# Altium footprint library CaRe_PCBLib.PcbLib: 40 footprints (part 3 of 3)
Each footprint in its own frame and in the unit in brackets; x right, y up, seen from the top. Pads: shape width x height; smd on the part's side, far side on the other; paste and mask are expansions set on the pad; w line width, h text height; cw(c..) or ccw(c..) is an arc to the next point about the centre after c.
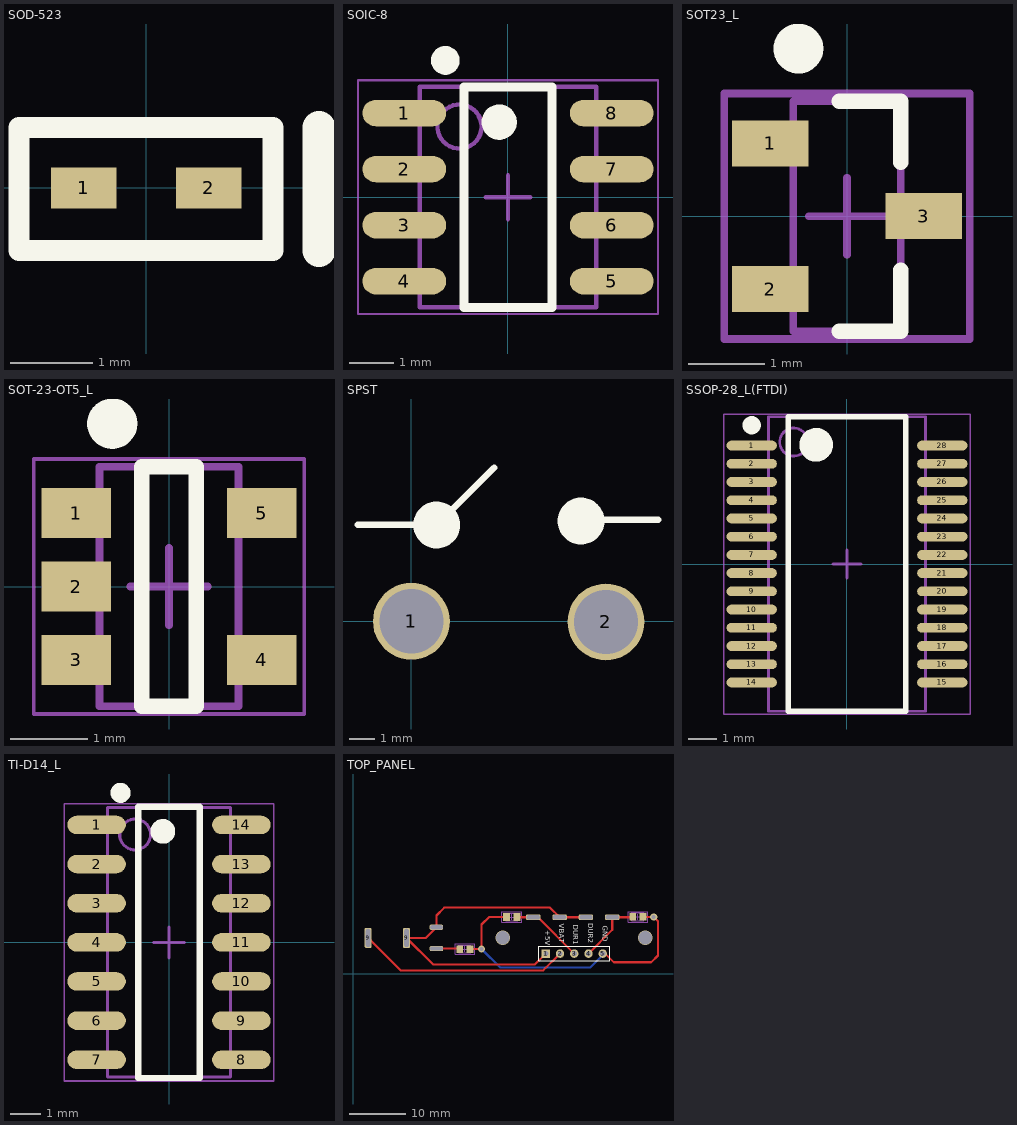
[diagram p2: the footprints below, top view; thin cyan lines are the x and y axes]

## SOD-523 [mm]
pads (2):
  rect 0.8x0.5 smd: 1(-0.762,0) 2(0.762,0)
Top Overlay:
  lines w0.254: -1.549,-0.762 -1.549,0.737 1.549,0.737 1.549,-0.762 -1.549,-0.762
  lines w0.4: 2.108,-0.762 2.108,0.737
3D body: height 0.71, standoff 0, extent -0.915,-0.424 0.915,0.425

## SOIC-8 [mm] "SOIC, 8-Leads, Body 4.9x3.9mm, Pitch 1.27mm, IPC High Density"
height 1.76
pads (8):
  oval 1.9x0.6 smd: 1(-2.35,1.905) 2(-2.35,0.635) 3(-2.35,-0.635) 4(-2.35,-1.905) 5(2.35,-1.905) 6(2.35,-0.635) 7(2.35,0.635) 8(2.35,1.905)
Top Overlay:
  circle w0.4: c-1.42,3.099 r0.125
  circle w0.4: c-0.2,1.7 r0.2
  lines w0.2: -1,-2.5 -1,2.5 1,2.5 1,-2.5 -1,-2.5
Mechanical 13:
  circle w0.1: c-1.1,1.6 r0.5
  lines w0.1: -2,-2.5 -2,2.5 2,2.5 2,-2.5 -2,-2.5
Mechanical 15:
  lines w0.05: -3.4,-2.65 -3.4,2.65 3.4,2.65 3.4,-2.65 -3.4,-2.65
  lines w0.1: -0.5,0 0.5,0 ; 0,-0.5 0,0.5
3D body: height 1.75, standoff 0, extent -3,-2.45 3,2.45

## SOT23_L [mm] "SOT23, 3-Leads, Body 2.9x1.3mm, Pitch 0.95mm, Lead Span 2.3mm, IPC High Density"
height 1.1
pads (3):
  rect 1x0.6 smd: 1(-1,0.95) 2(-1,-0.95) 3(1,0)
Top Overlay:
  circle w0.4: c-0.633,2.184 r0.125
  lines w0.2: -0.1,-1.5 0.7,-1.5 0.7,-0.7 ; -0.1,1.5 0.7,1.5 0.7,0.7
Mechanical 13:
  lines w0.1: -0.7,-1.5 -0.7,1.5 0.7,1.5 0.7,-1.5 -0.7,-1.5
Mechanical 15:
  lines w0.1: -0.5,0 0.5,0 ; 0,-0.5 0,0.5 ; -1.6,-1.6 -1.6,1.6 1.6,1.6 1.6,-1.6 -1.6,-1.6
3D body: height 1.1, standoff 0, extent -1.271,-1.524 1.271,1.476

## SOT-23-OT5_L [mm] "SOT23, 5-Leads, Body 2.9x1.6mm, Pitch 0.95mm, Lead Span 2.7mm, IPC High Density"
height 1.45
pads (5):
  rect 0.9x0.65 smd: 1(-1.2,0.95) 2(-1.2,0) 3(-1.2,-0.95) 4(1.2,-0.95) 5(1.2,0.95)
Top Overlay:
  circle w0.4: c-0.735,2.108 r0.125
  lines w0.2: -0.35,-1.55 0.35,-1.55 0.35,1.55 -0.35,1.55 -0.35,-1.55
Mechanical 13:
  lines w0.1: -0.9,-1.55 -0.9,1.55 0.9,1.55 0.9,-1.55 -0.9,-1.55
Mechanical 15:
  lines w0.05: -1.75,-1.65 -1.75,1.65 1.75,1.65 1.75,-1.65 -1.75,-1.65
  lines w0.1: -0.5,0 0.5,0 ; 0,-0.5 0,0.5
3D body: height 1.45, standoff 0, extent -1.53,-1.5 1.531,1.5

## SPST [mm] "Momentary Enable Button"
pads (2):
  round 3 hole 2.5: 1(0,0) 2(7.595,-0.025)
Top Overlay:
  circle w1: c0.991,3.759 r0.413
  circle w1: c6.622,3.912 r0.413
  lines w0.254: -2.083,3.759 0.991,3.759 3.226,5.994 ; 6.299,3.962 9.627,3.962

## SSOP-28_L(FTDI) [mm] "SOP, 28-Leads, Body 10.2x5.3mm, Pitch 0.65mm, IPC High Density"
height 2
pads (28):
  oval 1.8x0.35 smd: 1(-3.4,4.225) 2(-3.4,3.575) 3(-3.4,2.925) 4(-3.4,2.275) 5(-3.4,1.625) 6(-3.4,0.975) 7(-3.4,0.325) 8(-3.4,-0.325) 9(-3.4,-0.975) 10(-3.4,-1.625) 11(-3.4,-2.275) 12(-3.4,-2.925) 13(-3.4,-3.575) 14(-3.4,-4.225) 15(3.4,-4.225) 16(3.4,-3.575) 17(3.4,-2.925) 18(3.4,-2.275) 19(3.4,-1.625) 20(3.4,-0.975) 21(3.4,-0.325) 22(3.4,0.325) 23(3.4,0.975) 24(3.4,1.625) 25(3.4,2.275) 26(3.4,2.925) 27(3.4,3.575) 28(3.4,4.225)
Top Overlay:
  circle w0.4: c-3.4,4.95 r0.125
  circle w0.6: c-1.1,4.25 r0.3
  lines w0.2: -2.1,-5.25 -2.1,5.25 2.1,5.25 2.1,-5.25 -2.1,-5.25
Mechanical 13:
  circle w0.1: c-1.9,4.35 r0.5
  lines w0.1: -2.8,-5.25 -2.8,5.25 2.8,5.25 2.8,-5.25 -2.8,-5.25
Mechanical 15:
  lines w0.05: -4.4,-5.35 -4.4,5.35 4.4,5.35 4.4,-5.35 -4.4,-5.35
  lines w0.1: -0.5,0 0.5,0 ; 0,-0.5 0,0.5
3D body: height 2.16, standoff 0, extent -3.878,-5.123 3.878,5.207

## TI-D14_L [mm] "SOIC, 14-Leads, Body 8.65x3.9mm, Pitch 1.27mm, IPC High Density"
height 1.75
pads (14):
  oval 1.9x0.6 smd: 1(-2.35,3.81) 2(-2.35,2.54) 3(-2.35,1.27) 4(-2.35,0) 5(-2.35,-1.27) 6(-2.35,-2.54) 7(-2.35,-3.81) 8(2.35,-3.81) 9(2.35,-2.54) 10(2.35,-1.27) 11(2.35,0) 12(2.35,1.27) 13(2.35,2.54) 14(2.35,3.81)
Top Overlay:
  circle w0.4: c-0.2,3.6 r0.2
  circle w0.4: c-1.573,4.851 r0.125
  lines w0.2: -1,-4.4 1,-4.4 1,4.4 -1,4.4 -1,-4.4
Mechanical 13:
  circle w0.1: c-1.1,3.5 r0.5
  lines w0.1: -2,-4.375 2,-4.375 2,4.375 -2,4.375 -2,-4.375
Mechanical 15:
  lines w0.05: -3.4,-4.5 3.4,-4.5 3.4,4.5 -3.4,4.5 -3.4,-4.5
  lines w0.1: -0.5,0 0.5,0 ; 0,-0.5 0,0.5
3D body: height 1.75, standoff 0.1, extent -2,-4.375 2,4.375

## TOP_PANEL [mm]
pads (19):
  rect 1.2x1.35 smd: 1(20.864,4.369) 1(29.221,10.084) 1(49.864,10.109) 2(19.014,4.369) 2(27.371,10.084) 2(51.714,10.109)
  rect 1.5x1.5 hole 0.9: 1(34.366,3.556)
  round 1.5 hole 0.9: 2(36.906,3.556) 3(39.446,3.556) 4(41.986,3.556) 5(44.526,3.556)
  rrect50% 1.3x3.6 hole 0.762 slot 3.2 at 90 deg: 9(2.667,6.35) 9(9.525,6.35)
  rrect50% 2.4x0.9 hole 0.65 slot 2.2 at 0 deg: 11(14.859,4.445) 11(14.859,8.255)
  rrect50% 2.6x1 hole 0.7 slot 2.3 at 0 deg: 15(32.131,10.033) 15(36.83,10.033) 15(41.529,10.033) 15(46.228,10.033)
via 26.67,6.35 diameter 2.6 hole 2.4
via 52.07,6.35 diameter 2.6 hole 2.4
via 53.619,10.109 diameter 1.27 hole 0.711
via 22.911,4.369 diameter 1.27 hole 0.711
Top Layer:
  lines w0.381: 2.667,6.35 8.458,0.559 33.909,0.559 36.906,3.556 ; 14.859,4.445 18.938,4.445 ; 20.864,4.369 22.911,4.369 22.911,8.738 24.257,10.084 25.4,10.084 27.371,10.084 ; 29.271,10.033 32.131,10.033 32.969,10.033 39.446,3.556 ; 34.366,3.556 32.436,1.626 14.249,1.626 9.525,6.35 12.954,6.35 14.859,8.255 14.859,10.363 16.256,11.76 35.103,11.76 36.83,10.033 41.529,10.033 ; 41.986,3.556 46.228,7.798 46.228,10.033 49.788,10.033 ; 44.526,3.556 44.958,3.556 46.507,2.007 53.162,2.007 54.381,3.226 54.381,9.347 53.619,10.109 51.714,10.109
Bottom Layer:
  lines w0.381: 22.911,4.369 26.213,1.067 42.291,1.067 44.526,3.302 ; 44.526,3.302 44.526,3.556 44.526,3.302
Top Overlay:
  lines w0.2: 33.096,2.286 33.096,4.826 45.796,4.826 45.796,2.286 33.096,2.286
  text "GND" at 44.145,8.509 h1.52
  text "DUR2" at 41.58,8.966 h1.52
  text "DUR1" at 38.938,8.712 h1.52
  text "VBAT" at 36.398,8.839 h1.52
  text "+5V" at 33.884,7.691 h1.52
Mechanical 13:
  lines w0.1: 18.864,3.669 18.864,5.069 21.014,5.069 21.014,3.669 18.864,3.669 ; 27.221,9.384 27.221,10.784 29.371,10.784 29.371,9.384 27.221,9.384 ; 49.714,9.409 49.714,10.809 51.864,10.809 51.864,9.409 49.714,9.409
Mechanical 15:
  lines w0.05: 18.189,3.419 18.189,5.319 21.689,5.319 21.689,3.419 18.189,3.419 ; 26.546,9.134 26.546,11.034 30.046,11.034 30.046,9.134 26.546,9.134 ; 49.039,9.159 49.039,11.059 52.539,11.059 52.539,9.159 49.039,9.159
  lines w0.1: 19.439,4.369 20.439,4.369 ; 19.939,3.869 19.939,4.869 ; 27.796,10.084 28.796,10.084 ; 28.296,9.584 28.296,10.584 ; 50.289,10.109 51.289,10.109 ; 50.789,9.609 50.789,10.609
3D body: height 0.78, standoff 0, extent 18.939,3.744 20.939,4.994
3D body: height 0.78, standoff 0, extent 49.79,9.484 51.79,10.734
3D body: height 0.78, standoff 0, extent 27.295,9.459 29.295,10.709
3D body: height -0.52, standoff -2.3, extent 0,0 55.372,12.7